# Altium footprint library Altium LCOGT PCB LIB.PCBLIB: 329 footprints (part 6 of 21)
Each footprint in its own frame and in the unit in brackets; x right, y up, seen from the top. Pads: shape width x height; smd on the part's side, far side on the other; paste and mask are expansions set on the pad; w line width, h text height; cw(c..) or ccw(c..) is an arc to the next point about the centre after c.
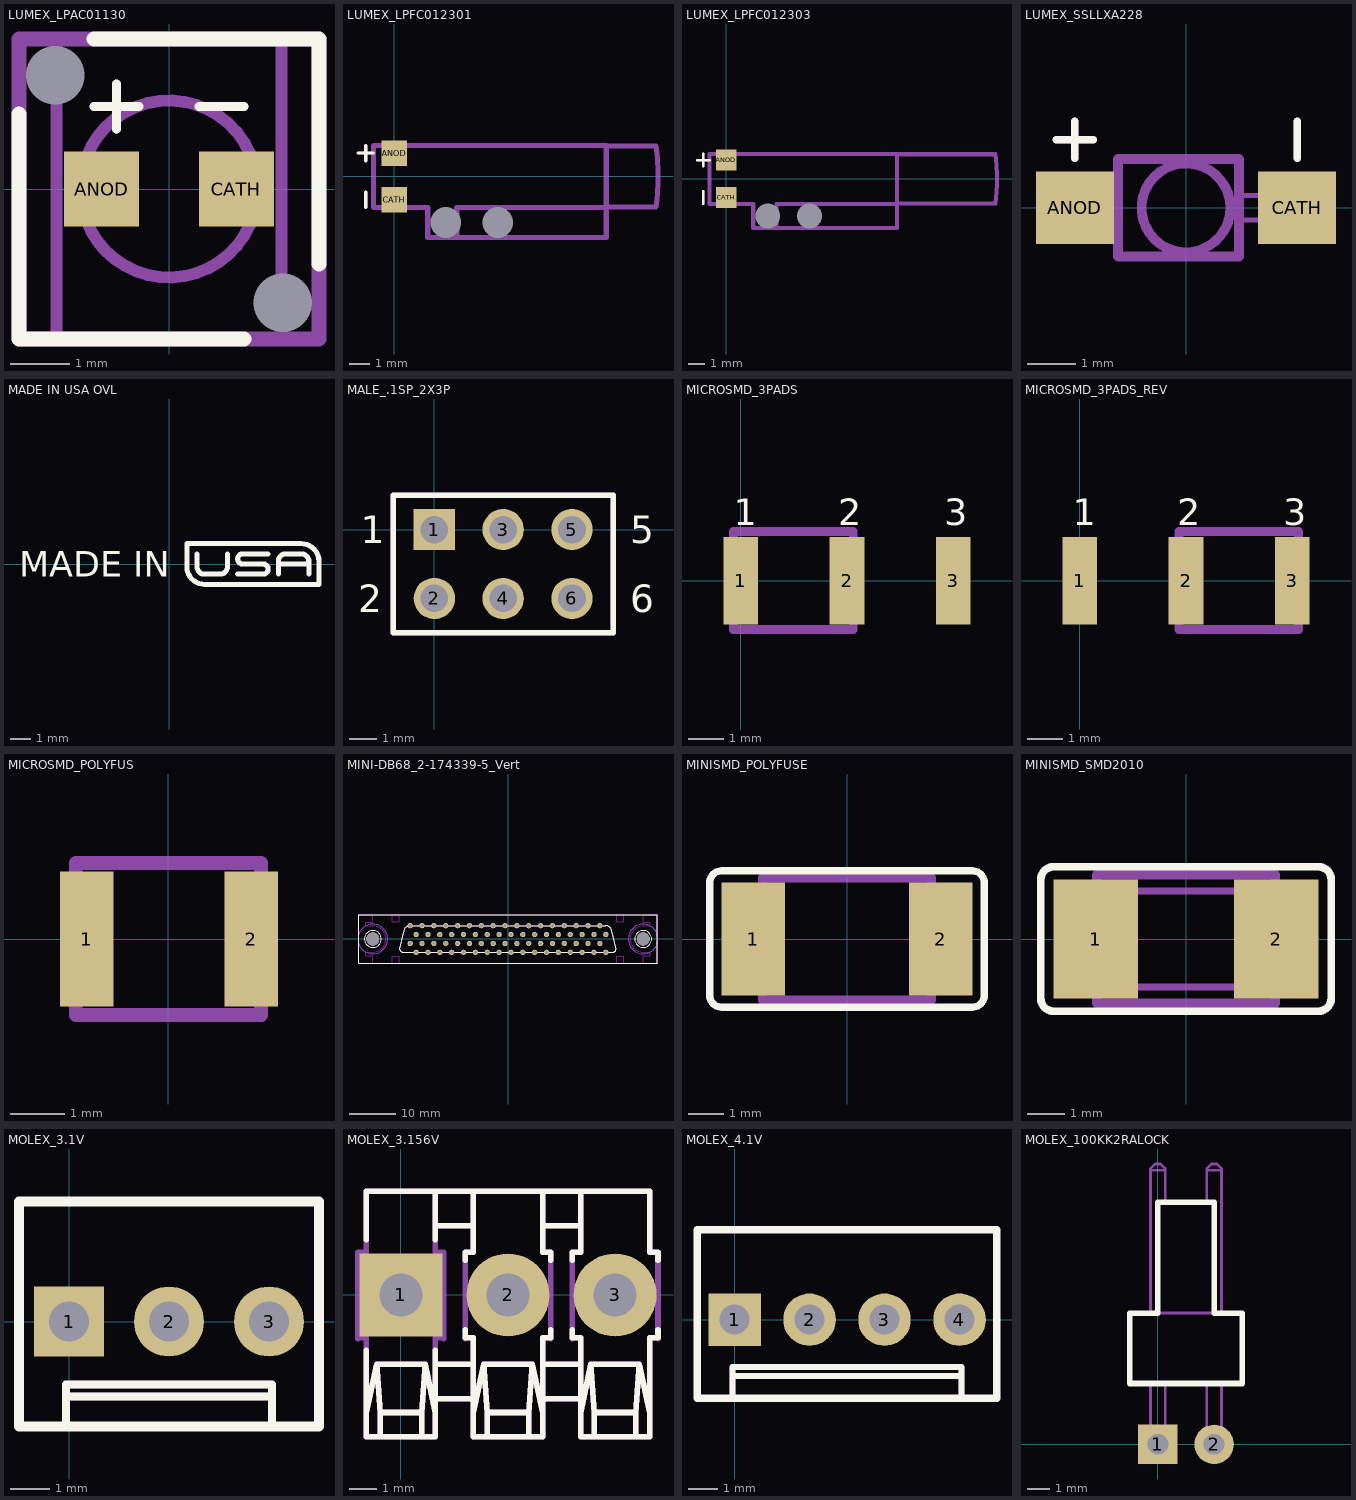
[diagram p5: the footprints below, top view; thin cyan lines are the x and y axes]

## LUMEX_LPAC01130 [mil]
pads (4):
  rect 50x50 smd: ANOD(-45,0) CATH(45,0)
  round 10 hole 39 unplated: ""(-76,76) ""(76,-76)
TopOverlay:
  lines w6: -50,55 -20,55 ; -35,40 -35,70 ; 20,55 50,55
  lines w10: -100,50 -100,-100 50,-100 ; -50,100 100,100 100,-50
Mechanical3:
  circle w8: c0,0 r59
  lines w6: -50,55 -20,55 ; -35,40 -35,70 ; 20,55 50,55
  lines w8: -75,-100 -75,100 ; 75,-100 75,100
  lines w10: -100,-100 -100,100 100,100 100,-100 -100,-100

## LUMEX_LPFC012301 [mil]
pads (4):
  rect 50x50 smd: ANOD(0,45) CATH(0,-45)
  round 20 hole 59 unplated: ""(100,-89) ""(200,-89)
TopOverlay:
  lines w6: -70,45 -40,45 ; -55,-60 -55,-30 ; -55,30 -55,60
Mechanical3:
  lines w6: -70,45 -40,45 ; -55,-60 -55,-30 ; -55,30 -55,60
  lines w10: 121,-118 121,-60 410,-60 ; 410,-59 506,-59 508,-45 509,-33 510,-10 510,10 509,33 508,45 506,59 410,59 ; -40,-60 65,-60 65,-118 410,-118 410,60 -40,60 -40,-60

## LUMEX_LPFC012303 [mil]
pads (4):
  rect 50x50 smd: ANOD(0,45) CATH(0,-45)
  round 20 hole 59 unplated: ""(100,-89) ""(200,-89)
TopOverlay:
  lines w6: -70,45 -40,45 ; -55,-60 -55,-30 ; -55,30 -55,60
Mechanical3:
  lines w6: -70,45 -40,45 ; -55,-60 -55,-30 ; -55,30 -55,60
  lines w10: 121,-118 121,-60 410,-60 ; 410,-59 646,-59 648,-45 649,-33 650,-10 650,10 649,33 648,45 646,59 410,59 ; -40,-60 65,-60 65,-118 410,-118 410,60 -40,60 -40,-60

## LUMEX_SSLLXA228 [mil]
pads (2):
  rect 63x59 smd: ANOD(-90,0) CATH(90,0)
TopOverlay:
  lines w6: -105,55 -75,55 ; -90,40 -90,70 ; 90,40 90,70
Mechanical3:
  circle w8: c0,0 r36
  lines w2: -65,-3 -65,3 ; 65,-3 65,3
  lines w4: -74,-10 -74,10 ; -55,-10 -90,-10 -90,10 -55,10 ; 43,-10 90,-10 90,10 43,10 ; 74,-10 74,10
  lines w6: -105,55 -75,55 ; -90,40 -90,70 ; 90,40 90,70
  lines w8: -55,-39.5 -55,39.5 43,39.5 43,-39.5 -55,-39.5

## MADE IN USA OVL [mil]
TopOverlay:
  lines w10: 55,20 55,-5 ccw(c70,-5) 70,-20 100,-20 ccw(c100,-5) 115,-5 115,20 ; 135,-20 185,-20 ccw(c185,-10) 185,0 145,0 cw(c145,10) 145,20 195,20 ; 215,-20 215,5 cw(c230,5) 230,20 260,20 cw(c260,5) 275,5 275,-20 ; 215,0 275,0 ; 35,-5 ccw(c70,-5) 70,-40 295,-40 295,5 ccw(c260,5) 260,40 35,40 35,-5
  text "MADE I" at -295,-25 h50
  text "N" at -50,-25 h50

## MALE_.1SP_2X3P [mil]
pads (6):
  rect 60x60 hole 40: 1(0,0)
  round 60 hole 40: 2(0,-100) 3(100,0) 4(100,-100) 5(200,0) 6(200,-100)
TopOverlay:
  lines w8: -60,-150 -60,50 260,50 260,-150 -60,-150
  text "6" at 285,-120 h40
  text "1" at -107,-20 h40
  text "2" at -111,-120 h40
  text "5" at 285,-20 h40
Mechanical3:
  lines w2: -12,-112 -3,-103 ; -12,-88 -3,-97 ; -12,-12 -3,-3 ; -12,12 -3,3 ; 12,-112 3,-103 ; 12,-88 3,-97 ; 12,-12 3,-3 ; 12,12 3,3 ; 88,-112 97,-103 ; 88,-88 97,-97 ; 88,-12 97,-3 ; 88,12 97,3 ; 112,-112 103,-103 ; 112,-88 103,-97 ; 112,-12 103,-3 ; 112,12 103,3 ; 188,-112 197,-103 ; 188,-88 197,-97 ; 188,-12 197,-3 ; 188,12 197,3 ; 212,-112 203,-103 ; 212,-88 203,-97 ; 212,-12 203,-3 ; 212,12 203,3 ; -3,-103 3,-103 ; -3,-103 -3,-97 ; -3,-97 3,-97 ; -3,-3 3,-3 ; -3,-3 -3,3 ; -3,3 3,3 ; 3,-103 3,-97 ; 3,-3 3,3 ; 97,-103 103,-103 ; 97,-103 97,-97 ; 97,-97 103,-97 ; 97,-3 103,-3 ; 97,-3 97,3 ; 97,3 103,3 ; 103,-103 103,-97 ; 103,-3 103,3 ; 197,-103 203,-103 ; 197,-103 197,-97 ; 197,-97 203,-97 ; 197,-3 203,-3 ; 197,-3 197,3 ; 197,3 203,3 ; 203,-103 203,-97 ; 203,-3 203,3
  lines w4: -12,-112 -12,-88 12,-88 12,-112 -12,-112 ; -12,-12 -12,12 12,12 12,-12 -12,-12 ; 88,-112 88,-88 112,-88 112,-112 88,-112 ; 88,-12 88,12 112,12 112,-12 88,-12 ; 188,-112 188,-88 212,-88 212,-112 188,-112 ; 188,-12 188,12 212,12 212,-12 188,-12
  lines w8: -60,-150 -60,50 260,50 260,-150 -60,-150

## MICROSMD_3PADS [mil]
pads (3):
  rect 39x98 smd: 1(0,0) 2(119,0) 3(238,0)
TopOverlay:
  text "3" at 228,62 h30
  text "2" at 109,62 h30
  text "1" at -8,62 h30
Mechanical3:
  lines w10: -8,-20.23 ccw(c-19.15,-0.12) -8,20 -8,55 126,55 126,20 ; -8,-20 -8,-55 126,-55 126,-20 cw(c137.15,0.12) 126,20.23

## MICROSMD_3PADS_REV [mil]
pads (3):
  rect 39x98 smd: 1(0,0) 2(119,0) 3(238,0)
TopOverlay:
  text "3" at 228,62 h30
  text "2" at 109,62 h30
  text "1" at -8,62 h30
Mechanical3:
  lines w10: 111,-20.23 ccw(c99.85,-0.12) 111,20 111,55 245,55 245,20 ; 111,-20 111,-55 245,-55 245,-20 cw(c256.15,0.12) 245,20.23

## MICROSMD_POLYFUS [mil]
pads (2):
  rect 39x98 smd: 1(-59,0) 2(60,0)
Mechanical3:
  lines w10: -67,-20.23 ccw(c-78.15,-0.12) -67,20 -67,55 67,55 67,20 ; -67,-20 -67,-55 67,-55 67,-20 cw(c78.15,0.12) 67,20.23

## MINI-DB68_2-174339-5_Vert [mil]
pads (70):
  round 45 hole 27: 1(825,-112.5) 2(775,-37.5) 3(725,-112.5) 4(675,-37.5) 5(625,-112.5) 6(575,-37.5) 7(525,-112.5) 8(475,-37.5) 9(425,-112.5) 10(375,-37.5) 11(325,-112.5) 12(275,-37.5) 13(225,-112.5) 14(175,-37.5) 15(125,-112.5) 16(75,-37.5) 17(25,-112.5) 18(-25,-37.5) 19(-75,-112.5) 20(-125,-37.5) 21(-175,-112.5) 22(-225,-37.5) 23(-275,-112.5) 24(-325,-37.5) 25(-375,-112.5) 26(-425,-37.5) 27(-475,-112.5) 28(-525,-37.5) 29(-575,-112.5) 30(-625,-37.5) 31(-675,-112.5) 32(-725,-37.5) 33(-775,-112.5) 34(-825,-37.5) 35(825,37.5) 36(775,112.5) 37(725,37.5) 38(675,112.5) 39(625,37.5) 40(575,112.5) 41(525,37.5) 42(475,112.5) 43(425,37.5) 44(375,112.5) 45(325,37.5) 46(275,112.5) 47(225,37.5) 48(175,112.5) 49(125,37.5) 50(75,112.5) 51(25,37.5) 52(-25,112.5) 53(-75,37.5) 54(-125,112.5) 55(-175,37.5) 56(-225,112.5) 57(-275,37.5) 58(-325,112.5) 59(-375,37.5) 60(-425,112.5) 61(-475,37.5) 62(-525,112.5) 63(-575,37.5) 64(-625,112.5) 65(-675,37.5) 66(-725,112.5) 67(-775,37.5) 68(-825,112.5)
  round 106.3 hole 106.3 unplated: ""(-1139.96,0) ""(1139.96,0)
TopLayer keep-out:
  lines w10: -1139.96,-110.24 ccw(c-1139.96,0) -1139.96,110.24 ; -1139.76,-110.24 -1198.82,-110.24 -1198.82,-139.76 -1139.76,-139.76 -1139.76,-202.76 -1257.87,-202.76 -1257.87,202.76 -1139.76,202.76 -1139.76,139.76 -1198.82,139.76 -1198.82,110.24 -1139.76,110.24 ; 1139.76,-110.24 1198.82,-110.24 1198.82,-139.76 1139.76,-139.76 1139.76,-202.76 1257.87,-202.76 1257.87,202.76 1139.76,202.76 1139.76,139.76 1198.82,139.76 1198.82,110.24 1139.76,110.24 ; 1139.96,-110.24 cw(c1139.96,0) 1139.96,110.24 ; -974.41,-202.76 -974.41,-143.7 -915.35,-143.7 -915.35,-202.76 -974.41,-202.76 ; -974.41,143.7 -974.41,202.76 -915.35,202.76 -915.35,143.7 -974.41,143.7 ; 915.35,-202.76 915.35,-143.7 974.41,-143.7 974.41,-202.76 915.35,-202.76 ; 915.35,143.7 915.35,202.76 974.41,202.76 974.41,143.7 915.35,143.7
BottomLayer keep-out:
  circle w10: c1139.96,0 r125
  circle w10: c-1139.96,0 r125
TopOverlay:
  circle w10: c-1139.96,0 r70.87
  circle w10: c1139.96,0 r70.87
  lines w10: -827.14,112.2 ccw(c-827.14,58.44) -865.16,96.46 -882.48,40.94 -911.42,-86.61 ccw(c-885.83,-86.61) -885.83,-112.21 -0.98,-112.2 ; -825,112.2 0,112.2 ; -1.77,112.2 823.23,112.2 ; -0.79,-112.2 884.06,-112.2 ccw(c884.06,-86.61) 909.65,-86.61 880.71,40.94 863.39,96.46 ccw(c825.37,58.44) 825.37,112.2 ; -1257.87,-202.76 0,-202.76 1257.87,-202.76 1257.87,202.76 -1257.87,202.76 -1257.87,-202.76
Mechanical3:
  circle w10: c1139.96,0 r53.15
  circle w10: c-1139.96,0 r53.15
  lines w10: -1.77,112.2 823.23,112.2 ; -0.98,-112.2 -885.83,-112.2 cw(c-885.83,-86.61) -911.42,-86.61 -882.48,40.94 -865.16,96.46 cw(c-827.14,58.44) -827.14,112.2 ; -0.79,-112.2 884.06,-112.2 ccw(c884.06,-86.61) 909.65,-86.61 880.71,40.94 863.39,96.46 ccw(c825.37,58.44) 825.37,112.2 ; 0,112.2 -825,112.2 ; -827.14,112.2 -825,112.2 ; -827.14,112.2 -825,112.2 ; 823.23,112.2 825.37,112.2 ; 823.23,112.2 825.37,112.2 ; -1257.87,-202.76 -1257.87,202.76 1257.87,202.76 1257.87,-202.76 0,-202.76 -1257.87,-202.76

## MINISMD_POLYFUSE [mil]
pads (2):
  rect 70x124 smd: 1(-103,0) 2(103,0)
TopOverlay:
  lines w8: -151,-62 ccw(c-138,-62) -138,-75 138,-75 ccw(c138,-62) 151,-62 151,62 ccw(c138,62) 138,75 -138,75 ccw(c-138,62) -151,62 -151,-62
Mechanical3:
  lines w10: -93,-20 -93,-67 93,-67 93,-20 ; -93,20 -93,67 93,67 93,20 ; -92.85,-20.12 ccw(c-104,0) -92.85,20.12 ; 92.85,-20.12 cw(c104,0) 92.85,20.12

## MINISMD_SMD2010 [mil]
pads (2):
  rect 88x124 smd: 1(-94,0) 2(94,0)
TopOverlay:
  lines w8: -151,-62 ccw(c-138,-62) -138,-75 138,-75 ccw(c138,-62) 151,-62 151,62 ccw(c138,62) 138,75 -138,75 ccw(c-138,62) -151,62 -151,-62
Mechanical3:
  lines w2: -76,-50 -76,50 ; 76,-50 76,50
  lines w7: -100,-50 100,-50 100,50 -100,50 -100,-50
  lines w10: -93,-20 -93,-67 93,-67 93,-20 ; -93,20 -93,67 93,67 93,20 ; -92.85,-20.12 ccw(c-104,0) -92.85,20.12 ; 92.85,-20.12 cw(c104,0) 92.85,20.12

## MOLEX_3.1V [mil]
pads (3):
  rect 70x70 hole 40: 1(0,0)
  round 70 hole 40: 2(100,0) 3(200,0)
TopOverlay:
  lines w8: -3,-105 -3,-63 203,-63 203,-105 ; -3,-75 203,-75
  lines w10: -50,-105 -50,120 250,120 250,-105 -50,-105
Mechanical3:
  lines w2: -13,-13 -5,-5 ; -13,13 -5,5 ; 13,-13 5,-5 ; 13,13 5,5 ; 87,-13 95,-5 ; 87,13 95,5 ; 113,-13 105,-5 ; 113,13 105,5 ; 187,-13 195,-5 ; 187,13 195,5 ; 213,-13 205,-5 ; 213,13 205,5 ; -5,-5 -5,5 ; -5,-5 5,-5 ; -5,5 5,5 ; 5,-5 5,5 ; 95,-5 95,5 ; 95,-5 105,-5 ; 95,5 105,5 ; 105,-5 105,5 ; 195,-5 195,5 ; 195,-5 205,-5 ; 195,5 205,5 ; 205,-5 205,5
  lines w4: -13,-13 -13,13 13,13 13,-13 -13,-13 ; 87,-13 87,13 113,13 113,-13 87,-13 ; 187,-13 213,-13 213,13 187,13 187,-13
  lines w8: -3,-105 -3,-63 203,-63 203,-105 ; -3,-75 203,-75 ; -50,-105 -50,120 250,120 250,-105 -50,-105

## MOLEX_3.156V [mil]
pads (3):
  rect 120x120 hole 62: 1(0,0)
  round 120 hole 62: 2(155,0) 3(310,0)
TopOverlay:
  lines w8: -50,-170 -35,-100 ; -50,-80 -50,-205 50,-205 50,-80 ; -50,80 -50,150 360,150 360,62 372,62 372,50 ; -30,-205 -30,-170 ; 30,-205 30,-170 ; 50,-170 35,-100 ; 50,-150 105,-150 ; 50,-100 105,-100 ; 50,80 50,150 ; 50,100 105,100 ; 93,-50 93,-62 105,-62 105,-205 205,-205 205,-62 217,-62 217,-50 ; 93,50 93,62 105,62 105,150 ; 105,-170 120,-100 ; 125,-205 125,-170 ; 185,-205 185,-170 ; 205,-170 190,-100 ; 205,-150 260,-150 ; 205,-100 260,-100 ; 205,100 260,100 ; 205,150 205,62 217,62 217,50 ; 248,-50 248,-62 260,-62 260,-205 360,-205 360,-62 372,-62 372,-50 ; 248,50 248,62 260,62 260,150 ; 260,-170 275,-100 ; 280,-205 280,-170 ; 340,-205 340,-170 ; 360,-170 345,-100 ; -35,-100 -30,-170 ; -35,-100 35,-100 ; -30,-170 30,-170 ; 30,-170 35,-100 ; 120,-100 125,-170 ; 120,-100 190,-100 ; 125,-170 185,-170 ; 185,-170 190,-100 ; 275,-100 280,-170 ; 275,-100 345,-100 ; 280,-170 340,-170 ; 340,-170 345,-100
Mechanical3:
  lines w2: -22,-22 -12,-12 ; -22,23 -12,13 ; 23,-22 13,-12 ; 23,23 13,13 ; 133,-22 143,-12 ; 133,23 143,13 ; 178,-22 168,-12 ; 178,23 168,13 ; 288,-22 298,-12 ; 288,23 298,13 ; 333,-22 323,-12 ; 333,23 323,13 ; -12,-12 13,-12 ; -12,-12 -12,13 ; -12,13 13,13 ; 13,-12 13,13 ; 143,-12 168,-12 ; 143,-12 143,13 ; 143,13 168,13 ; 168,-12 168,13 ; 298,-12 323,-12 ; 298,-12 298,13 ; 298,13 323,13 ; 323,-12 323,13
  lines w6: -22,-22 23,-22 23,23 -22,23 -22,-22 ; 133,-22 178,-22 178,23 133,23 133,-22 ; 288,-22 333,-22 333,23 288,23 288,-22
  lines w8: -62,-63 -62,62 -50,62 -50,150 360,150 360,62 372,62 372,-63 ; -62,-62 -50,-62 -50,-205 50,-205 50,-62 62,-62 ; -50,-170 -35,-100 ; -30,-205 -30,-170 ; 30,-205 30,-170 ; 50,-170 35,-100 ; 50,-150 105,-150 ; 50,-100 105,-100 ; 50,100 105,100 ; 50,150 50,62 62,62 62,-63 ; 93,-63 93,62 105,62 105,150 ; 93,-62 105,-62 105,-205 205,-205 205,-62 217,-62 ; 105,-170 120,-100 ; 125,-205 125,-170 ; 185,-205 185,-170 ; 205,-170 190,-100 ; 205,-150 260,-150 ; 205,-100 260,-100 ; 205,100 260,100 ; 205,150 205,62 217,62 217,-63 ; 248,-63 248,62 260,62 260,150 ; 248,-62 260,-62 260,-205 360,-205 360,-62 372,-62 ; 260,-170 275,-100 ; 280,-205 280,-170 ; 340,-205 340,-170 ; 360,-170 345,-100 ; -35,-100 -30,-170 ; -35,-100 35,-100 ; -30,-170 30,-170 ; 30,-170 35,-100 ; 120,-100 125,-170 ; 120,-100 190,-100 ; 125,-170 185,-170 ; 185,-170 190,-100 ; 275,-100 280,-170 ; 275,-100 345,-100 ; 280,-170 340,-170 ; 340,-170 345,-100

## MOLEX_4.1V [mil]
pads (4):
  rect 70x70 hole 40: 1(0,0)
  round 70 hole 40: 2(100,0) 3(200,0) 4(300,0)
TopOverlay:
  lines w8: -3,-105 -3,-63 303,-63 303,-105 ; -3,-75 303,-75
  lines w10: -50,-105 350,-105 350,120 -50,120 -50,-105
Mechanical3:
  lines w2: -13,-13 -5,-5 ; -13,13 -5,5 ; 13,-13 5,-5 ; 13,13 5,5 ; 87,-13 95,-5 ; 87,13 95,5 ; 113,-13 105,-5 ; 113,13 105,5 ; 187,-13 195,-5 ; 187,13 195,5 ; 213,-13 205,-5 ; 213,13 205,5 ; 287,-13 295,-5 ; 287,13 295,5 ; 313,-13 305,-5 ; 313,13 305,5 ; -5,-5 5,-5 ; -5,-5 -5,5 ; -5,5 5,5 ; 5,-5 5,5 ; 95,-5 105,-5 ; 95,-5 95,5 ; 95,5 105,5 ; 105,-5 105,5 ; 195,-5 205,-5 ; 195,-5 195,5 ; 195,5 205,5 ; 205,-5 205,5 ; 295,-5 305,-5 ; 295,-5 295,5 ; 295,5 305,5 ; 305,-5 305,5
  lines w4: -13,-13 13,-13 13,13 -13,13 -13,-13 ; 87,-13 113,-13 113,13 87,13 87,-13 ; 187,-13 187,13 213,13 213,-13 187,-13 ; 287,-13 313,-13 313,13 287,13 287,-13
  lines w8: -3,-105 -3,-63 303,-63 303,-105 ; -3,-75 303,-75 ; -50,-105 350,-105 350,120 -50,120 -50,-105

## MOLEX_100KK2RALOCK [mil] "Molex KK header 2P 0.100 R/A LOCK"
pads (2):
  rect 70x70 hole 37: 1(0,0)
  round 70 hole 37: 2(100,0)
TopOverlay:
  lines w10: -50,108 -50,233 0,233 0,430 100,430 100,233 150,233 150,108 -50,108
Mechanical3:
  lines w5: -13,0 -13,108 ; -13,487 13,487 ; 0,233 0,430 100,430 100,233 ; 13,0 13,108 ; 13,430 13,484 13,490 5,498 0,498 -5,498 -13,490 -13,484 -13,233 ; 87,0 87,108 ; 87,430 87,484 87,490 95,498 100,498 105,498 113,490 113,484 113,233 ; 87,487 113,487 ; 113,0 113,108 ; -13,108 -50,108 -50,233 -13,233 ; -13,108 -3,108 4,108 14,108 87,108 ; -13,233 -3,233 87,233 97,233 113,233 ; 87,108 97,108 113,108 ; 113,108 123,108 150,108 150,233 123,233 113,233